# Altium footprint library Inductor_SMD.PcbLib: 587 footprints (part 28 of 37)
Each footprint in its own frame and in the unit in brackets; x right, y up, seen from the top. Pads: shape width x height; smd on the part's side, far side on the other; paste and mask are expansions set on the pad; w line width, h text height; cw(c..) or ccw(c..) is an arc to the next point about the centre after c.
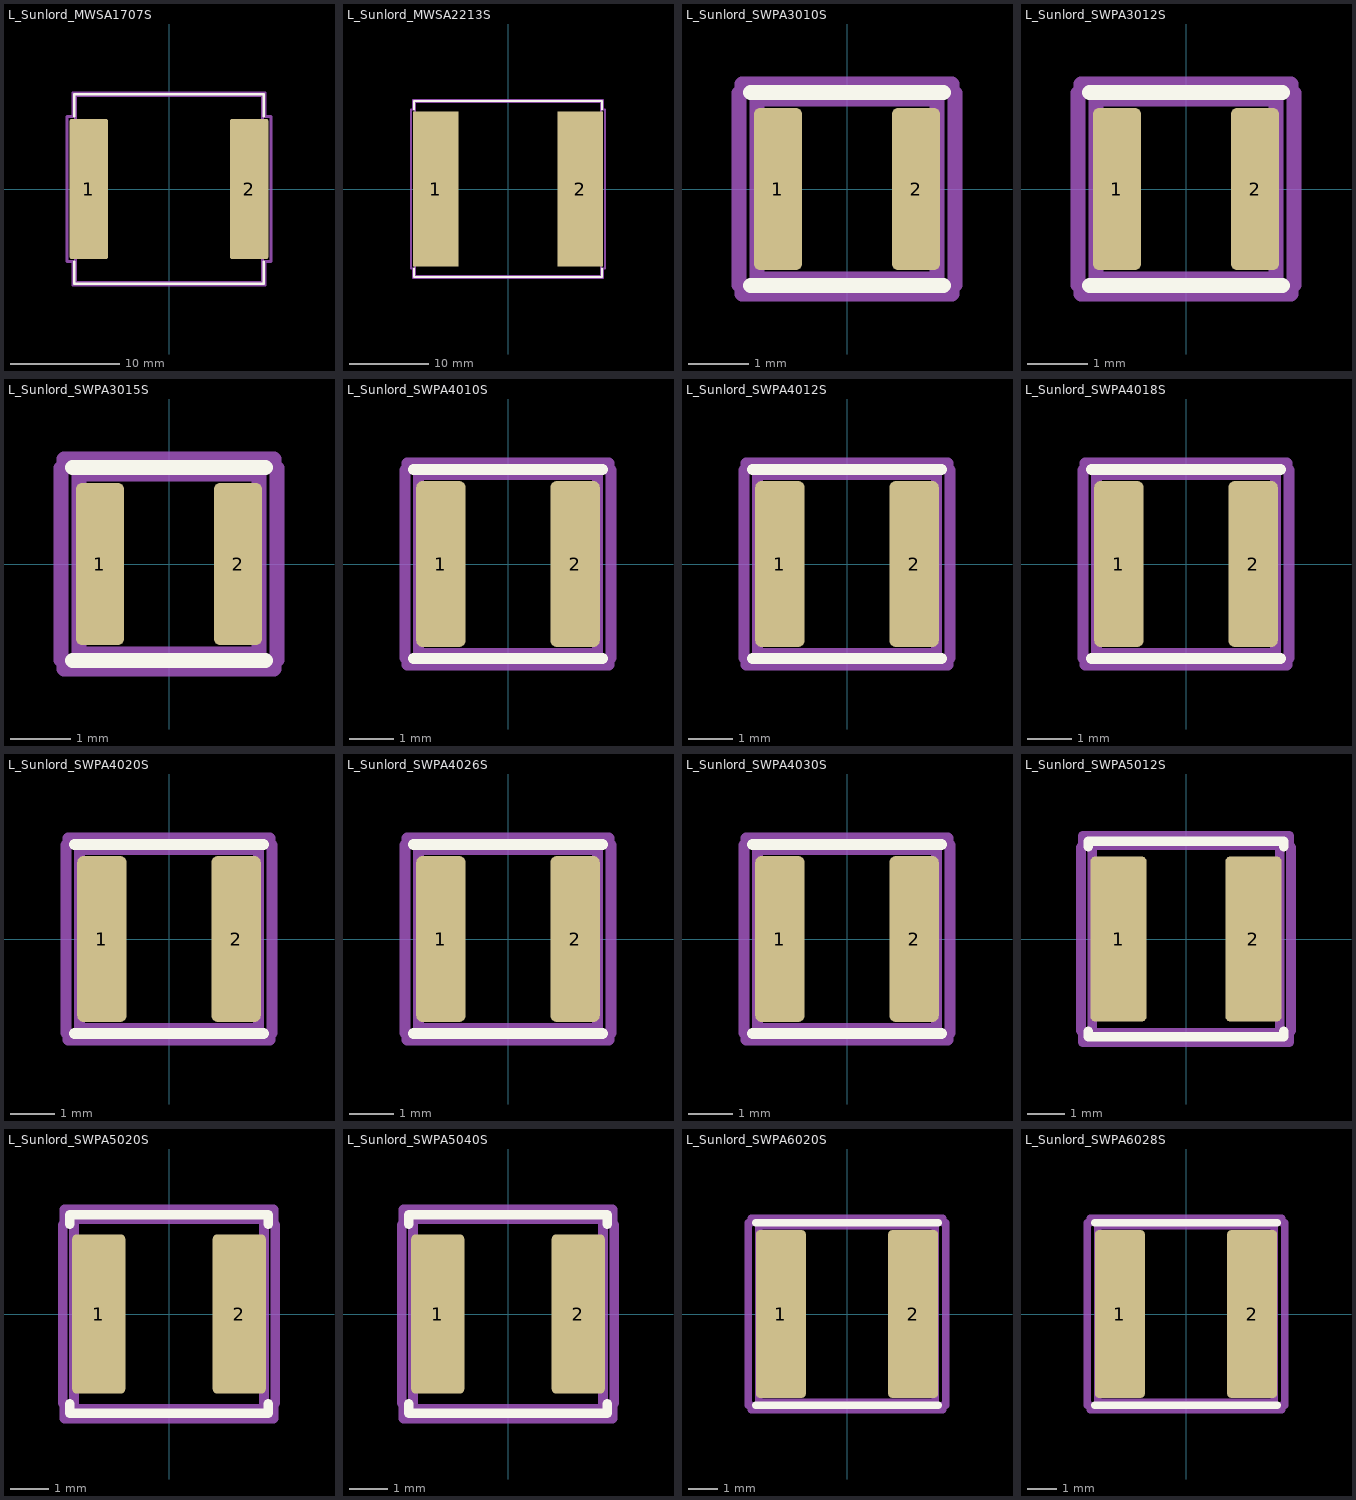
[diagram p27: the footprints below, top view; thin cyan lines are the x and y axes]

## L_Sunlord_MWSA1707S [mm] "L_Sunlord_MWSA1707S"
pads (2):
  rrect7% 3.5x12.8 smd: 1(-7.35,0) 2(7.35,0)
F.SilkS:
  lines w0.254: -8.685,-6.66 -8.685,-8.685 8.685,-8.685 8.685,-6.66 ; -8.685,6.66 -8.685,8.685 8.685,8.685 8.685,6.66
Top Assembly:
  lines w0.254: -8.575,-8.575 -8.575,8.575 8.575,8.575 8.575,-8.575 -8.575,-8.575
  text "'.Designator'" at -4.047,-0.84 h1
Top Courtyard:
  lines w0.254: -9.35,-6.65 -9.35,6.65 -8.83,6.65 -8.83,8.83 8.83,8.83 8.83,6.65 9.35,6.65 9.35,-6.65 8.83,-6.65 8.83,-8.83 -8.83,-8.83 -8.83,-6.65 -9.35,-6.65
Top Designator:
  text ".Designator" at -7.618,-0.508 h1.52
3D body "L_Sunlord_MWSA1707S.step": height 6.7, standoff 0, extent -8.58,-8.575 8.58,8.575

## L_Sunlord_MWSA2213S [mm] "L_Sunlord_MWSA2213S"
pads (2):
  rrect4% 5.75x19.6 smd: 1(-9.125,0) 2(9.125,0)
F.SilkS:
  lines w0.254: -11.86,-10.06 -11.86,-11.11 11.86,-11.11 11.86,-10.06 ; -11.86,10.06 -11.86,11.11 11.86,11.11 11.86,10.06
Top Assembly:
  lines w0.254: -11.75,-11 -11.75,11 11.75,11 11.75,-11 -11.75,-11
  text "'.Designator'" at -4.047,-0.84 h1
Top Courtyard:
  lines w0.254: -12.25,-10.05 -12.25,10.05 -12,10.05 -12,11.25 12,11.25 12,10.05 12.25,10.05 12.25,-10.05 12,-10.05 12,-11.25 -12,-11.25 -12,-10.05 -12.25,-10.05
Top Designator:
  text ".Designator" at -7.618,-0.508 h1.52
3D body "L_Sunlord_MWSA2213S.step": height 12.6, standoff 0, extent -11.755,-11 11.755,11

## L_Sunlord_SWPA3010S [mm] "L_Sunlord_SWPA3010S"
pads (2):
  rrect25% 0.8x2.7 smd: 1(-1.15,0) 2(1.15,0)
F.SilkS:
  lines w0.254: -1.61,-1.61 1.61,-1.61 ; -1.61,1.61 1.61,1.61
Top Assembly:
  lines w0.254: -1.5,-1.5 -1.5,1.5 1.5,1.5 1.5,-1.5 -1.5,-1.5
  text "'.Designator'" at -3.033,-0.628 h0.75
Top Courtyard:
  lines w0.254: -1.8,-1.6 -1.8,1.6 -1.75,1.6 -1.75,1.75 1.75,1.75 1.75,1.6 1.8,1.6 1.8,-1.6 1.75,-1.6 1.75,-1.75 -1.75,-1.75 -1.75,-1.6 -1.8,-1.6
Top Designator:
  text ".Designator" at -7.728,-0.508 h1.52
3D body "L_Sunlord_SWPA3010S.step": height 1, standoff 0, extent -1.5,-1.5 1.5,1.5

## L_Sunlord_SWPA3012S [mm] "L_Sunlord_SWPA3012S"
pads (2):
  rrect25% 0.8x2.7 smd: 1(-1.15,0) 2(1.15,0)
F.SilkS:
  lines w0.254: -1.61,-1.61 1.61,-1.61 ; -1.61,1.61 1.61,1.61
Top Assembly:
  lines w0.254: -1.5,-1.5 -1.5,1.5 1.5,1.5 1.5,-1.5 -1.5,-1.5
  text "'.Designator'" at -3.033,-0.628 h0.75
Top Courtyard:
  lines w0.254: -1.8,-1.6 -1.8,1.6 -1.75,1.6 -1.75,1.75 1.75,1.75 1.75,1.6 1.8,1.6 1.8,-1.6 1.75,-1.6 1.75,-1.75 -1.75,-1.75 -1.75,-1.6 -1.8,-1.6
Top Designator:
  text ".Designator" at -7.728,-0.508 h1.52
3D body "L_Sunlord_SWPA3012S.step": height 1.2, standoff 0, extent -1.5,-1.5 1.5,1.5

## L_Sunlord_SWPA3015S [mm] "L_Sunlord_SWPA3015S"
pads (2):
  rrect25% 0.8x2.7 smd: 1(-1.15,0) 2(1.15,0)
F.SilkS:
  lines w0.254: -1.61,-1.61 1.61,-1.61 ; -1.61,1.61 1.61,1.61
Top Assembly:
  lines w0.254: -1.5,-1.5 -1.5,1.5 1.5,1.5 1.5,-1.5 -1.5,-1.5
  text "'.Designator'" at -3.033,-0.628 h0.75
Top Courtyard:
  lines w0.254: -1.8,-1.6 -1.8,1.6 -1.75,1.6 -1.75,1.75 1.75,1.75 1.75,1.6 1.8,1.6 1.8,-1.6 1.75,-1.6 1.75,-1.75 -1.75,-1.75 -1.75,-1.6 -1.8,-1.6
Top Designator:
  text ".Designator" at -7.728,-0.508 h1.52
3D body "L_Sunlord_SWPA3015S.step": height 1.5, standoff 0, extent -1.5,-1.5 1.5,1.5

## L_Sunlord_SWPA4010S [mm] "L_Sunlord_SWPA4010S"
pads (2):
  rrect23% 1.1x3.7 smd: 1(-1.5,0) 2(1.5,0)
F.SilkS:
  lines w0.254: -2.11,-2.11 2.11,-2.11 ; -2.11,2.11 2.11,2.11
Top Assembly:
  lines w0.254: -2,-2 2,-2 2,2 -2,2 -2,-2
  text "'.Designator'" at -4.047,-0.84 h1
Top Courtyard:
  lines w0.254: -2.3,-2.1 -2.25,-2.1 -2.25,-2.25 2.25,-2.25 2.25,-2.1 2.3,-2.1 2.3,2.1 2.25,2.1 2.25,2.25 -2.25,2.25 -2.25,2.1 -2.3,2.1 -2.3,-2.1
Top Designator:
  text ".Designator" at -7.768,-0.508 h1.52
3D body "L_Sunlord_SWPA4010S.step": height 1, standoff 0, extent -2,-2 2,2

## L_Sunlord_SWPA4012S [mm] "L_Sunlord_SWPA4012S"
pads (2):
  rrect23% 1.1x3.7 smd: 1(-1.5,0) 2(1.5,0)
F.SilkS:
  lines w0.254: -2.11,-2.11 2.11,-2.11 ; -2.11,2.11 2.11,2.11
Top Assembly:
  lines w0.254: -2,-2 2,-2 2,2 -2,2 -2,-2
  text "'.Designator'" at -4.047,-0.84 h1
Top Courtyard:
  lines w0.254: -2.3,-2.1 -2.25,-2.1 -2.25,-2.25 2.25,-2.25 2.25,-2.1 2.3,-2.1 2.3,2.1 2.25,2.1 2.25,2.25 -2.25,2.25 -2.25,2.1 -2.3,2.1 -2.3,-2.1
Top Designator:
  text ".Designator" at -7.768,-0.508 h1.52
3D body "L_Sunlord_SWPA4012S.step": height 1.2, standoff 0, extent -2,-2 2,2

## L_Sunlord_SWPA4018S [mm] "L_Sunlord_SWPA4012S"
pads (2):
  rrect23% 1.1x3.7 smd: 1(-1.5,0) 2(1.5,0)
F.SilkS:
  lines w0.254: -2.11,-2.11 2.11,-2.11 ; -2.11,2.11 2.11,2.11
Top Assembly:
  lines w0.254: -2,-2 2,-2 2,2 -2,2 -2,-2
  text "'.Designator'" at -4.047,-0.84 h1
Top Courtyard:
  lines w0.254: -2.3,-2.1 -2.25,-2.1 -2.25,-2.25 2.25,-2.25 2.25,-2.1 2.3,-2.1 2.3,2.1 2.25,2.1 2.25,2.25 -2.25,2.25 -2.25,2.1 -2.3,2.1 -2.3,-2.1
Top Designator:
  text ".Designator" at -7.768,-0.508 h1.52
3D body "L_Sunlord_SWPA4012S.step": height 1.2, standoff 0, extent -2,-2 2,2

## L_Sunlord_SWPA4020S [mm] "L_Sunlord_SWPA4020S"
pads (2):
  rrect23% 1.1x3.7 smd: 1(-1.5,0) 2(1.5,0)
F.SilkS:
  lines w0.254: -2.11,-2.11 2.11,-2.11 ; -2.11,2.11 2.11,2.11
Top Assembly:
  lines w0.254: -2,-2 -2,2 2,2 2,-2 -2,-2
  text "'.Designator'" at -4.047,-0.84 h1
Top Courtyard:
  lines w0.254: -2.3,-2.1 -2.3,2.1 -2.25,2.1 -2.25,2.25 2.25,2.25 2.25,2.1 2.3,2.1 2.3,-2.1 2.25,-2.1 2.25,-2.25 -2.25,-2.25 -2.25,-2.1 -2.3,-2.1
Top Designator:
  text ".Designator" at -7.768,-0.508 h1.52
3D body "L_Sunlord_SWPA4020S.step": height 2, standoff 0, extent -2,-2 2,2

## L_Sunlord_SWPA4026S [mm] "L_Sunlord_SWPA4026S"
pads (2):
  rrect23% 1.1x3.7 smd: 1(-1.5,0) 2(1.5,0)
F.SilkS:
  lines w0.254: -2.11,-2.11 2.11,-2.11 ; -2.11,2.11 2.11,2.11
Top Assembly:
  lines w0.254: -2,-2 2,-2 2,2 -2,2 -2,-2
  text "'.Designator'" at -4.047,-0.84 h1
Top Courtyard:
  lines w0.254: -2.3,-2.1 -2.25,-2.1 -2.25,-2.25 2.25,-2.25 2.25,-2.1 2.3,-2.1 2.3,2.1 2.25,2.1 2.25,2.25 -2.25,2.25 -2.25,2.1 -2.3,2.1 -2.3,-2.1
Top Designator:
  text ".Designator" at -7.768,-0.508 h1.52
3D body "L_Sunlord_SWPA4026S.step": height 2.6, standoff 0, extent -2,-2 2,2

## L_Sunlord_SWPA4030S [mm] "L_Sunlord_SWPA4030S"
pads (2):
  rrect23% 1.1x3.7 smd: 1(-1.5,0) 2(1.5,0)
F.SilkS:
  lines w0.254: -2.11,-2.11 2.11,-2.11 ; -2.11,2.11 2.11,2.11
Top Assembly:
  lines w0.254: -2,-2 -2,2 2,2 2,-2 -2,-2
  text "'.Designator'" at -4.047,-0.84 h1
Top Courtyard:
  lines w0.254: -2.3,-2.1 -2.3,2.1 -2.25,2.1 -2.25,2.25 2.25,2.25 2.25,2.1 2.3,2.1 2.3,-2.1 2.25,-2.1 2.25,-2.25 -2.25,-2.25 -2.25,-2.1 -2.3,-2.1
Top Designator:
  text ".Designator" at -7.768,-0.508 h1.52
3D body "L_Sunlord_SWPA4030S.step": height 3, standoff 0, extent -2,-2 2,2

## L_Sunlord_SWPA5012S [mm] "L_Sunlord_SWPA5012S"
pads (2):
  rrect17% 1.5x4.4 smd: 1(-1.8,0) 2(1.8,0)
F.SilkS:
  lines w0.254: -2.61,-2.46 -2.61,-2.61 2.61,-2.61 2.61,-2.46 ; -2.61,2.46 -2.61,2.61 2.61,2.61 2.61,2.46
Top Assembly:
  lines w0.254: -2.5,-2.5 -2.5,2.5 2.5,2.5 2.5,-2.5 -2.5,-2.5
  text "'.Designator'" at -4.047,-0.84 h1
Top Courtyard:
  lines w0.254: -2.8,-2.45 -2.8,2.45 -2.75,2.45 -2.75,2.75 2.75,2.75 2.75,2.45 2.8,2.45 2.8,-2.45 2.75,-2.45 2.75,-2.75 -2.75,-2.75 -2.75,-2.45 -2.8,-2.45
Top Designator:
  text ".Designator" at -7.768,-0.508 h1.52
3D body "L_Sunlord_SWPA5012S.step": height 1.2, standoff 0, extent -2.5,-2.5 2.5,2.5

## L_Sunlord_SWPA5020S [mm] "L_Sunlord_SWPA5020S"
pads (2):
  rrect18% 1.4x4.2 smd: 1(-1.85,0) 2(1.85,0)
F.SilkS:
  lines w0.254: -2.61,-2.36 -2.61,-2.61 2.61,-2.61 2.61,-2.36 ; -2.61,2.36 -2.61,2.61 2.61,2.61 2.61,2.36
Top Assembly:
  lines w0.254: -2.5,-2.5 -2.5,2.5 2.5,2.5 2.5,-2.5 -2.5,-2.5
  text "'.Designator'" at -4.047,-0.84 h1
Top Courtyard:
  lines w0.254: -2.8,-2.35 -2.8,2.35 -2.75,2.35 -2.75,2.75 2.75,2.75 2.75,2.35 2.8,2.35 2.8,-2.35 2.75,-2.35 2.75,-2.75 -2.75,-2.75 -2.75,-2.35 -2.8,-2.35
Top Designator:
  text ".Designator" at -7.768,-0.508 h1.52
3D body "L_Sunlord_SWPA5020S.step": height 2, standoff 0, extent -2.5,-2.5 2.5,2.5

## L_Sunlord_SWPA5040S [mm] "L_Sunlord_SWPA5040S"
pads (2):
  rrect18% 1.4x4.2 smd: 1(-1.85,0) 2(1.85,0)
F.SilkS:
  lines w0.254: -2.61,-2.36 -2.61,-2.61 2.61,-2.61 2.61,-2.36 ; -2.61,2.36 -2.61,2.61 2.61,2.61 2.61,2.36
Top Assembly:
  lines w0.254: -2.5,-2.5 2.5,-2.5 2.5,2.5 -2.5,2.5 -2.5,-2.5
  text "'.Designator'" at -4.047,-0.84 h1
Top Courtyard:
  lines w0.254: -2.8,-2.35 -2.75,-2.35 -2.75,-2.75 2.75,-2.75 2.75,-2.35 2.8,-2.35 2.8,2.35 2.75,2.35 2.75,2.75 -2.75,2.75 -2.75,2.35 -2.8,2.35 -2.8,-2.35
Top Designator:
  text ".Designator" at -7.768,-0.508 h1.52
3D body "L_Sunlord_SWPA5040S.step": height 4, standoff 0, extent -2.5,-2.5 2.5,2.5

## L_Sunlord_SWPA6020S [mm] "L_Sunlord_SWPA6020S"
pads (2):
  rrect15% 1.7x5.7 smd: 1(-2.25,0) 2(2.25,0)
F.SilkS:
  lines w0.254: -3.11,-3.11 3.11,-3.11 ; -3.11,3.11 3.11,3.11
Top Assembly:
  lines w0.254: -3,-3 3,-3 3,3 -3,3 -3,-3
  text "'.Designator'" at -4.047,-0.84 h1
Top Courtyard:
  lines w0.254: -3.35,-3.1 -3.25,-3.1 -3.25,-3.25 3.25,-3.25 3.25,-3.1 3.35,-3.1 3.35,3.1 3.25,3.1 3.25,3.25 -3.25,3.25 -3.25,3.1 -3.35,3.1 -3.35,-3.1
Top Designator:
  text ".Designator" at -7.768,-0.508 h1.52
3D body "L_Sunlord_SWPA6020S.step": height 2, standoff 0, extent -3,-3 3,3

## L_Sunlord_SWPA6028S [mm] "L_Sunlord_SWPA6028S"
pads (2):
  rrect15% 1.7x5.7 smd: 1(-2.25,0) 2(2.25,0)
F.SilkS:
  lines w0.254: -3.11,-3.11 3.11,-3.11 ; -3.11,3.11 3.11,3.11
Top Assembly:
  lines w0.254: -3,-3 -3,3 3,3 3,-3 -3,-3
  text "'.Designator'" at -4.047,-0.84 h1
Top Courtyard:
  lines w0.254: -3.35,-3.1 -3.35,3.1 -3.25,3.1 -3.25,3.25 3.25,3.25 3.25,3.1 3.35,3.1 3.35,-3.1 3.25,-3.1 3.25,-3.25 -3.25,-3.25 -3.25,-3.1 -3.35,-3.1
Top Designator:
  text ".Designator" at -7.768,-0.508 h1.52
3D body "L_Sunlord_SWPA6028S.step": height 2.8, standoff 0, extent -3,-3 3,3